# Altium footprint library WE-XTAL.PcbLib: 20 footprints (part 2 of 2)
Each footprint in its own frame and in the unit in brackets; x right, y up, seen from the top. Pads: shape width x height; smd on the part's side, far side on the other; paste and mask are expansions set on the pad; w line width, h text height; cw(c..) or ccw(c..) is an arc to the next point about the centre after c.
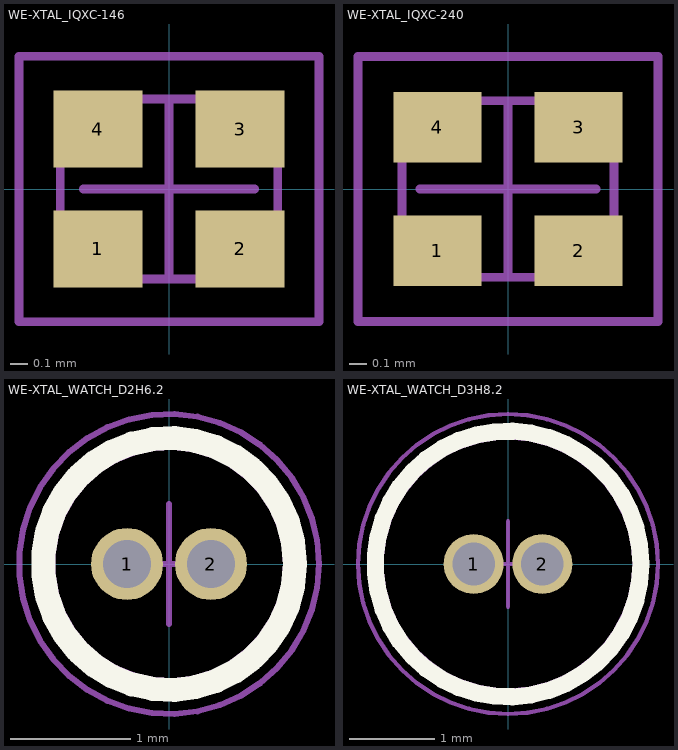
[diagram p1: the footprints below, top view; thin cyan lines are the x and y axes]

## WE-XTAL_IQXC-146 [mm] "Watch Crystal, SMT, IQXC-146, body 1.27x1.05mm"
height 0.5
pads (4):
  rect 0.52x0.45 smd: 1(-0.415,-0.35) 2(0.415,-0.35) 3(0.415,0.35) 4(-0.415,0.35)
Top Designator:
  text ".Designator" at -2.499,-0.167 h0.5
Top Component Outline:
  lines w0.05: -0.635,-0.525 -0.635,0.525 0.635,0.525 0.635,-0.525 -0.635,-0.525
Top 3D Body:
  lines w0.05: -0.635,-0.525 0.635,-0.525 0.635,0.525 -0.635,0.525 -0.635,-0.525
Top Courtyard:
  lines w0.05: -0.5,0 0.5,0 ; 0,-0.5 0,0.5 ; -0.875,-0.775 0.875,-0.775 0.875,0.775 -0.875,0.775 -0.875,-0.775
3D body "IQXC-146.stp": height 0.5, standoff 0, extent -0.635,-0.525 0.635,0.525

## WE-XTAL_IQXC-240 [mm] "Quartz crystal, IQXC-240, body 1.2x1mm"
height 0.33
pads (4):
  rect 0.5x0.4 smd: 1(-0.4,-0.35) 2(0.4,-0.35) 3(0.4,0.35) 4(-0.4,0.35)
Top Designator:
  text ".Designator" at -2.499,-0.167 h0.5
Top Component Outline:
  lines w0.05: -0.6,-0.5 0.6,-0.5 0.6,0.5 -0.6,0.5 -0.6,-0.5
Top 3D Body:
  lines w0.05: -0.6,-0.5 0.6,-0.5 0.6,0.5 -0.6,0.5 -0.6,-0.5
Top Courtyard:
  lines w0.05: -0.5,0 0.5,0 ; 0,-0.5 0,0.5 ; -0.85,-0.75 0.85,-0.75 0.85,0.75 -0.85,0.75 -0.85,-0.75
3D body "IQXC-240.stp": height 0.33, standoff 0, extent -0.601,-0.5 0.6,0.5

## WE-XTAL_WATCH_D2H6.2 [mm] "Quartz Crystal, size WATCH, body diameter 2mm"
height 6.2
pads (2):
  round 0.6 hole 0.4: 1(-0.35,0) 2(0.35,0)
Top Overlay:
  circle w0.2: c0,0 r1.05
Top Designator:
  text ".Designator" at -2.499,-0.167 h0.5
Top Component Outline:
  circle w0.1: c0,0 r1
Top 3D Body:
  circle w0.1: c0,0 r1
Top Courtyard:
  circle w0.05: c0,0 r1.25
  lines w0.05: -0.5,0 0.5,0 ; 0,-0.5 0,0.5
3D body "Frq_XTAL_WATCH-2x6.stp": height 6.2, standoff -5, extent -1,-1 1,1

## WE-XTAL_WATCH_D3H8.2 [mm] "Quartz Crystal, size WATCH, body diameter 3mm"
height 8.2
pads (2):
  round 0.7 hole 0.5: 1(-0.4,0) 2(0.4,0)
Top Overlay:
  circle w0.2: c0,0 r1.55
Top Designator:
  text ".Designator" at -4.998,-0.333 h1
Top Component Outline:
  circle w0.1: c0,0 r1.5
Top 3D Body:
  circle w0.1: c0,0 r1.5
Top Courtyard:
  circle w0.05: c0,0 r1.75
  lines w0.05: -0.5,0 0.5,0 ; 0,-0.5 0,0.5
3D body "Frq_XTAL_WATCH-3x8.stp": height 8.25, standoff -8.95, extent -1.5,-1.5 1.5,1.5